# EAGLE library part MC15 (library con-phoenix-381)
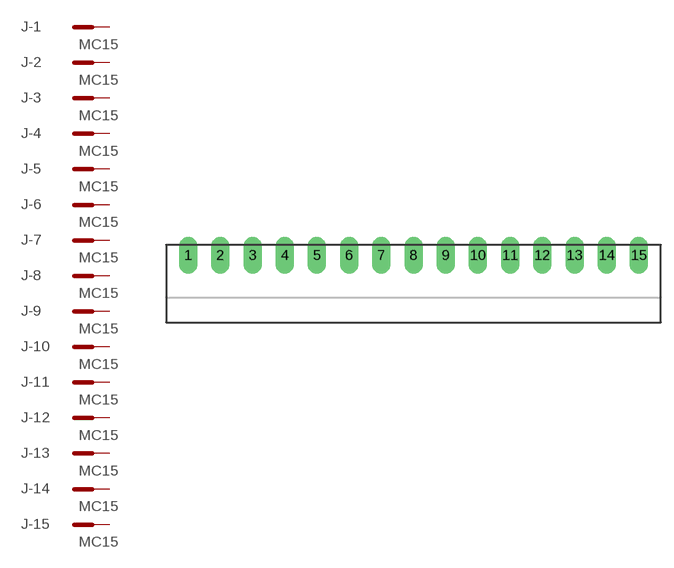
[diagram p43: symbol with the pads of MC15; footprint MC15]

Designator prefix J; gates -1=MCST+V -2=MCST+V -3=MCST+V -4=MCST+V -5=MCST+V -6=MCST+V -7=MCST+V -8=MCST+V -9=MCST+V -10=MCST+V -11=MCST+V -12=MCST+V -13=MCST+V -14=MCST+V -15=MCST+V

## MC15  [MC15]
1  -1:SK  pas
2  -2:SK  pas
3  -3:SK  pas
4  -4:SK  pas
5  -5:SK  pas
6  -6:SK  pas
7  -7:SK  pas
8  -8:SK  pas
9  -9:SK  pas
10  -10:SK  pas
11  -11:SK  pas
12  -12:SK  pas
13  -13:SK  pas
14  -14:SK  pas
15  -15:SK  pas

## Footprint MC15 (pad centres in mm)
drill 1.27 pad 2.184 long: 1 -26.67,0; 2 -22.86,0; 3 -19.05,0; 4 -15.24,0; 5 -11.43,0; 6 -7.62,0; 7 -3.81,0; 8 0,0; 9 3.81,0; 10 7.62,0; 11 11.43,0; 12 15.24,0; 13 19.05,0; 14 22.86,0; 15 26.67,0